# EAGLE library part FDC6420 (library Components Library)
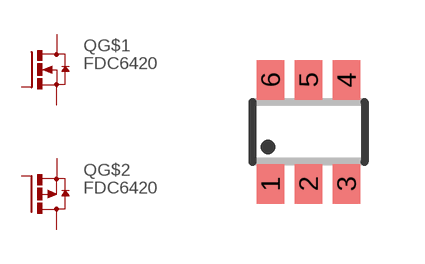
[diagram p13: symbol with the pads of SSOT6; footprint SSOT6]

Designator prefix Q; gates G$1=MOSFET_N G$2=MOSFET_P

## FDC6420C  [SSOT6]
1  G$1:G  pas
2  G$2:S  pas
3  G$2:G  pas
4  G$2:D  pas
5  G$1:S  pas
6  G$1:D  pas

## Footprint SSOT6 (pad centres in mm)
smd 0.69 x 0.99: 1 -0.95,-1.3; 2 0,-1.3; 3 0.95,-1.3; 4 0.95,1.3; 5 0,1.3; 6 -0.95,1.3